# EAGLE library part DSS5220V-7 (library Diodes_Inc_By_element14_Batch_1)
TRANSISTOR
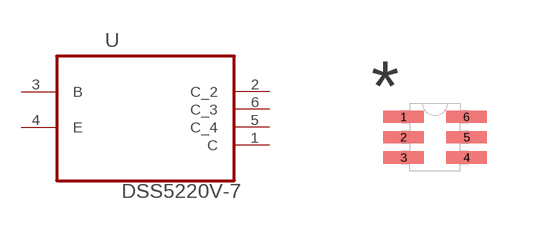
[diagram p33: symbol with the pads of SOT50P160X60-6N; footprint SOT50P160X60-6N]

Designator prefix U

## DSS5220V-7 (MPN: DSS5220V-7; OC_FARNELL: 1710706; OC_NEWARK: 25R4569; PACKAGE: SOT-563-6; SUPPLIER: Diodes Inc)  [SOT50P160X60-6N]
1  C  pas
2  C_2  pas
3  B  pas
4  E  pas
5  C_4  pas
6  C_3  pas

## Footprint SOT50P160X60-6N (pad centres in mm)
smd 1.016 x 0.305: 1 -0.787,0.508; 2 -0.787,0; 3 -0.787,-0.508; 4 0.787,-0.508; 5 0.787,0; 6 0.787,0.508